# EAGLE library part PMC85XP (library X893)
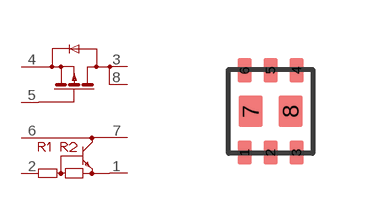
[diagram p189: symbol with the pads of DFN2020-6; footprint DFN2020-6]

Designator prefix Q

## PMC85XP  [DFN2020-6]
1  E  pas
2  B  pas
3  D  pas
4  S  pas
5  G  pas
6  C  pas
7  C  pas
8  D  pas

## Footprint DFN2020-6 (pad centres in mm)
smd 0.35 x 0.6: 1 -0.65,-1.025; 2 0,-1.025; 3 0.65,-1.025; 4 0.65,1.025; 5 0,1.025; 6 -0.65,1.025
smd 0.6 x 0.8: 7 -0.5,0; 8 0.5,0